# Altium schematic symbol library BB-HEADER-P07-P12.SchLib: 1 symbol
Pins are listed as number, name and electrical type; pins without a type are passive.

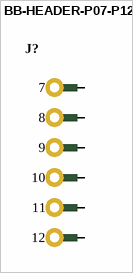
[diagram p0: symbol BB-HEADER-P07-P12]

## BB-HEADER-P07-P12
designator J?  (value not drawn)
BB Header, Vertical, Male, 0.1", 2.54mm, P07-P12
pins: 7, 8, 9, 10, 11, 12